# EAGLE library part PCA9306DC (library Explore Labs EAGLE Library)
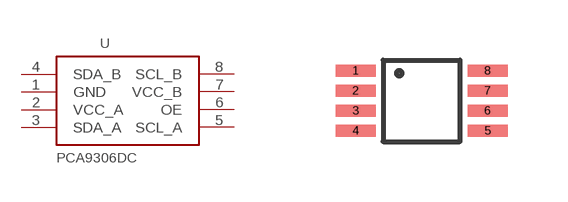
[diagram p5: symbol with the pads of VSSOP8; footprint VSSOP8]

Designator prefix -

## PCA9306DC (MFGPN: PCA9306DC)  [VSSOP8]
1  GND  pwr
2  VCC_A  pwr
3  SDA_A
4  SDA_B
5  SCL_A
6  OE  in
7  VCC_B  pwr
8  SCL_B

## Footprint VSSOP8 (pad centres in mm)
smd 1 x 0.3: 1 -1.65,0.75; 2 -1.65,0.25; 3 -1.65,-0.25; 4 -1.65,-0.75; 5 1.65,-0.75; 6 1.65,-0.25; 7 1.65,0.25; 8 1.65,0.75